# Altium footprint library WTR_PCBLib.PcbLib: 21 footprints (part 1 of 2)
Each footprint in its own frame and in the unit in brackets; x right, y up, seen from the top. Pads: shape width x height; smd on the part's side, far side on the other; paste and mask are expansions set on the pad; w line width, h text height; cw(c..) or ccw(c..) is an arc to the next point about the centre after c.
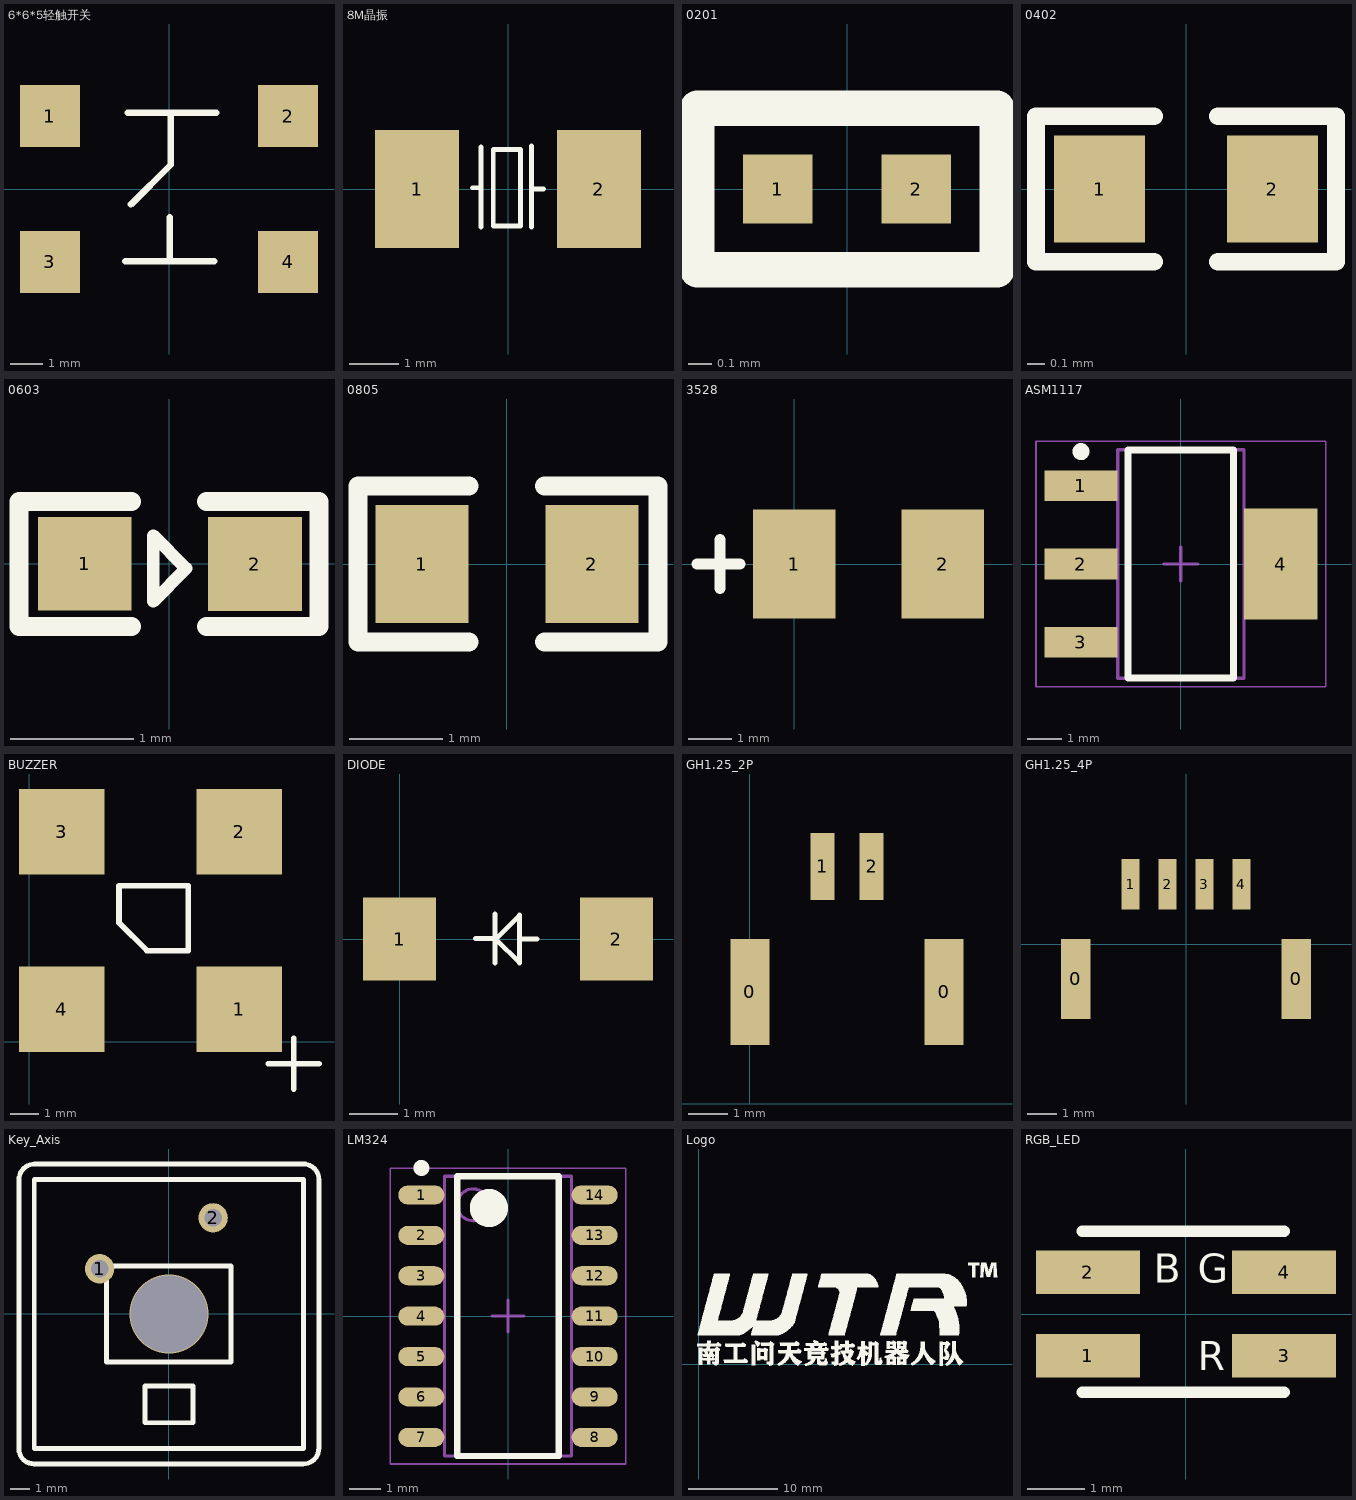
[diagram p0: the footprints below, top view; thin cyan lines are the x and y axes]

## 6*6*5轻触开关 [mm]
pads (4):
  rect 1.85x1.9 smd: 1(-3.675,2.25) 2(3.675,2.25) 3(-3.675,-2.25) 4(3.675,-2.25)
Top Overlay:
  lines w0.2: -1.35,-2.225 1.4,-2.225 ; -1.275,2.35 1.45,2.35 ; -1.175,-0.475 0.05,0.75 0.05,2.35 ; 0.025,-2.225 0.025,-0.875

## 8M晶振 [mm]
pads (2):
  rect 1.7x2.4 smd: 1(-1.85,0) 2(1.85,0)
Top Overlay:
  lines w0.1: -0.725,0.025 -0.55,0.025 ; -0.55,-0.775 -0.55,0.85 ; 0.475,-0.775 0.475,0.875 ; 0.475,0 0.725,0 ; -0.3,-0.75 0.25,-0.75 0.25,0.8 -0.3,0.8 -0.3,-0.2 -0.3,-0.75
3D body: height 0.25, standoff 0, extent -2.5,-1.6 2.5,1.6

## 0201 [mm]
pads (2):
  rect 0.3x0.3 smd: 1(-0.3,0) 2(0.3,0)
Top Overlay:
  lines w0.152: -0.65,-0.35 0.65,-0.35 0.65,0.35 -0.65,0.35 -0.65,-0.35
3D body "R 0201.STEP": height 0.23, standoff 0, extent -0.3,-0.15 0.3,0.15

## 0402 [mil]
pads (2):
  rect 20x23.62 smd: 1(-19,0) 2(19,0)
Top Overlay:
  lines w3.94: -7,-16 -33,-16 -33,16 -7,16 ; 7,-16 33,-16 33,16 7,16

## 0603 [mil]
pads (2):
  rect 30x30 smd: 1(-27,0) 2(27.5,-0.06)
Top Overlay:
  lines w4: -5,-12 -5,9 5.5,-1.5 -5,-12
  lines w6: -12,-20.06 -48,-20.06 -48,19.94 -12,19.94 ; 12,-20.06 48,-20.06 48,19.94 12,19.94

## 0805 [mm]
pads (2):
  rect 1x1.27 smd: 1(-0.914,0) 2(0.914,0)
Top Overlay:
  lines w0.203: -0.406,-0.838 -1.6,-0.838 -1.6,0.838 -0.406,0.838 ; 0.406,-0.838 1.626,-0.838 1.626,0.838 0.406,0.838

## 3528 [mm]
pads (2):
  rect 1.9x2.5 smd: 1(0,0) 2(3.42,0)
Top Overlay:
  lines w0.254: -2.235,0 -1.245,0 ; -1.702,-0.559 -1.702,0.559

## ASM1117 [mm] "SOT223, 4-Leads, Body 6.51x7.00mm (avg), Pitch 2.30mm, IPC Medium Density"
height 1.8
pads (4):
  rect 2.15x0.9 smd: 1(-2.93,2.3) 2(-2.93,0) 3(-2.93,-2.3)
  rect 2.15x3.25 smd: 4(2.93,0)
Top Overlay:
  circle w0.25: c-2.93,3.3 r0.125
  lines w0.2: -1.55,-3.35 -1.55,3.35 1.55,3.35 1.55,-3.35 -1.55,-3.35
Top Assembly:
  lines w0.1: -1.855,-3.355 -1.855,3.355 1.855,3.355 1.855,-3.355 -1.855,-3.355
Top Courtyard:
  lines w0.05: -4.25,-3.6 -4.25,3.6 4.25,3.6 4.25,-3.6 -4.25,-3.6
  lines w0.1: -0.5,0 0.5,0 ; 0,-0.5 0,0.5
3D body: height 1.8, standoff 0.64, extent -1.855,-3.355 1.855,3.355

## BUZZER [mm]
pads (4):
  rect 3x3 smd: 1(7.366,1.143) 2(7.366,7.366) 3(1.143,7.366) 4(1.143,1.143)
Top Overlay:
  lines w0.2: 8.382,-0.762 10.16,-0.762 ; 9.271,-1.651 9.271,-0.762 9.271,0.127 ; 3.15,4.175 4.125,3.2 5.575,3.2 5.575,5.475 3.15,5.475 3.15,4.425 3.15,4.175

## DIODE [mm] "SODFL, 2-Leads, Body 3.63x5.35mm, IPC Medium Density"
height 1.1
pads (2):
  rect 1.52x1.724 smd: 1(0,0) 2(4.5,0)
Top Overlay:
  lines w0.1: 1.575,0.013 2.007,0.013 ; 1.981,-0.495 1.981,0.521 ; 1.981,-0.013 2.489,0.495 2.489,-0.495 2.007,-0.013 ; 2.489,0 2.857,0

## GH1.25_2P [mm]
pads (4):
  rect 1x2.7 smd: 0(0,2.845) 0(4.95,2.845)
  rect 0.6x1.7 smd: 1(1.85,6.045) 2(3.1,6.045)

## GH1.25_4P [mm]
pads (6):
  rect 1x2.7 smd: 0(-3.725,-1.175) 0(3.725,-1.175)
  rect 0.6x1.7 smd: 1(-1.875,2.025) 2(-0.625,2.025) 3(0.625,2.025) 4(1.875,2.025)

## Key_Axis [mm]
pads (2):
  round 1.524 hole 0.9: 1(-3.6,2.35) 2(2.3,5)
via 0,0 diameter 4.1 hole 4
Top Overlay:
  lines w0.254: -7.794,-7.041 -7.794,-5.799 -7.795,5.784 -7.795,6.985 ; -7.794,-7.028 ccw(c-7.04,-7.041) -7.026,-7.795 ; -7.794,6.97 cw(c-6.985,6.985) -6.97,7.794 ; -7.016,-7.805 -5.794,-7.805 5.798,-7.805 ; -6.985,7.795 -5.794,7.795 5.82,7.795 ; 5.791,7.798 6.993,7.798 ; 5.798,-7.802 6.988,-7.802 ; 6.974,-7.802 ccw(c6.988,-6.993) 7.798,-6.977 ; 6.977,7.798 cw(c6.993,6.988) 7.802,6.974 ; 7.798,-6.993 7.798,-5.791 ; 7.802,5.798 7.802,6.988 ; 7.805,-5.791 7.805,5.784 ; -7,-7 0,-7 7,-7 7,0 7,7 0,7 -7,7 -7,0 -7,-7 ; -3.24,-2.5 -3.24,0 -3.24,2.5 0,2.5 3.24,2.5 3.24,0 3.24,-2.5 0,-2.5 -3.24,-2.5 ; -1.25,-5.66 0,-5.66 1.25,-5.66 1.25,-3.745 0,-3.745 -1.25,-3.745 -1.25,-5.66

## LM324 [mm] "SOIC, 14-Leads, Body 8.65x3.90mm, Pitch 1.27mm, IPC Medium Density"
height 1.75
pads (14):
  oval 1.45x0.6 smd: 1(-2.725,3.81) 2(-2.725,2.54) 3(-2.725,1.27) 4(-2.725,0) 5(-2.725,-1.27) 6(-2.725,-2.54) 7(-2.725,-3.81) 8(2.725,-3.81) 9(2.725,-2.54) 10(2.725,-1.27) 11(2.725,0) 12(2.725,1.27) 13(2.725,2.54) 14(2.725,3.81)
Top Overlay:
  circle w0.25: c-2.725,4.66 r0.125
  circle w0.6: c-0.6,3.4 r0.3
  lines w0.2: -1.6,-4.4 -1.6,4.4 1.6,4.4 1.6,-4.4 -1.6,-4.4
Top Assembly:
  circle w0.1: c-1.1,3.5 r0.5
  lines w0.1: -2,-4.4 -2,4.4 2,4.4 2,-4.4 -2,-4.4
Top Courtyard:
  lines w0.05: -3.7,-4.65 -3.7,4.65 3.7,4.65 3.7,-4.65 -3.7,-4.65
  lines w0.1: -0.5,0 0.5,0 ; 0,-0.5 0,0.5
3D body: height 1.75, standoff 0.1, extent -2,-4.4 2,4.4

## Logo [mm]
Top Overlay:
  drawing of 4116 lines, arcs and shapes, not listed

## RGB_LED [mm]
pads (4):
  rect 1.8x0.75 smd: 1(-1.7,-0.725) 2(-1.7,0.725) 3(1.7,-0.725) 4(1.7,0.725)
Top Overlay:
  lines w0.2: -1.799,-1.36 1.701,-1.36 ; -1.799,1.437 1.7,1.437
  text "B" at -0.557,0.545 h0.5
  text "G" at 0.205,0.545 h0.5
  text "R" at 0.205,-0.979 h0.5